# Altium footprint library BGA.PcbLib: 3 footprints
Each footprint in its own frame and in the unit in brackets; x right, y up, seen from the top. Pads: shape width x height; smd on the part's side, far side on the other; paste and mask are expansions set on the pad; w line width, h text height; cw(c..) or ccw(c..) is an arc to the next point about the centre after c.
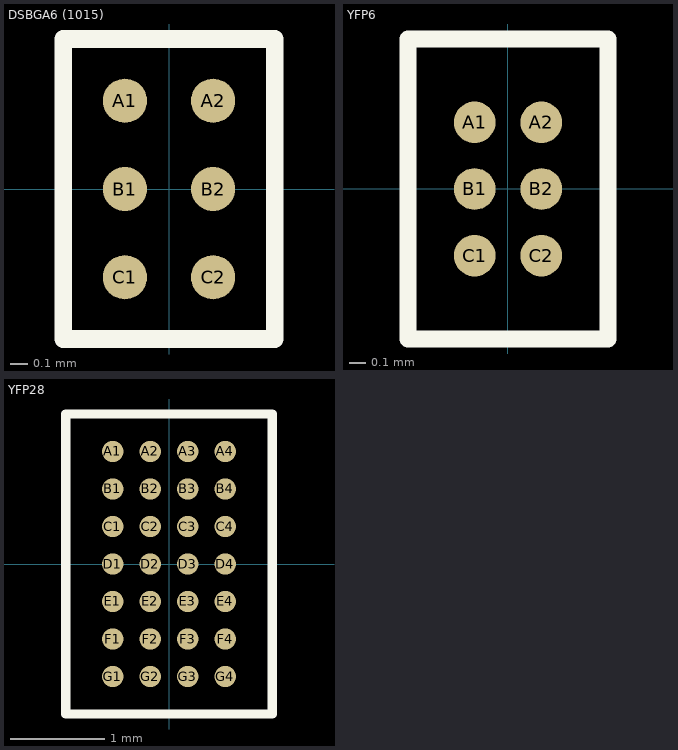
[diagram p0: the footprints below, top view; thin cyan lines are the x and y axes]

## DSBGA6 (1015) [mm]
pads (6):
  round 0.25 smd: A1(-0.25,0.5) A2(0.25,0.5) B1(-0.25,0) B2(0.25,0) C1(-0.25,-0.5) C2(0.25,-0.5)
Top Overlay:
  lines w0.1: -0.6,-0.85 0.6,-0.85 0.6,0.85 -0.6,0.85 -0.6,-0.85
3D body "DSBGA6.SLDPRT": height 0.62, standoff -0.01, extent -0.5,-0.75 0.5,0.75

## YFP6 [mm]
pads (6):
  round 0.25 smd: A1(-0.2,0.4) A2(0.2,0.4) B1(-0.2,0) B2(0.2,0) C1(-0.2,-0.4) C2(0.2,-0.4)
Top Overlay:
  lines w0.1: -0.6,-0.9 -0.6,0.9 0.6,0.9 0.6,-0.9 -0.6,-0.9
3D body "YFP6.STEP": height 0.49, standoff -0.01, extent -0.45,-0.8 0.45,0.8

## YFP28 [mil]
pads (28):
  round 9 smd: A1(-23.62,47.24) A2(-7.87,47.24) A3(7.87,47.24) A4(23.62,47.24) B1(-23.62,31.5) B2(-7.87,31.5) B3(7.87,31.5) B4(23.62,31.5) C1(-23.62,15.75) C2(-7.87,15.75) C3(7.87,15.75) C4(23.62,15.75) D1(-23.62,0) D2(-7.87,0) D3(7.87,0) D4(23.62,0) E1(-23.62,-15.75) E2(-7.87,-15.75) E3(7.87,-15.75) E4(23.62,-15.75) F1(-23.62,-31.5) F2(-7.87,-31.5) F3(7.87,-31.5) F4(23.62,-31.5) G1(-23.62,-47.24) G2(-7.87,-47.24) G3(7.87,-47.24) G4(23.62,-47.24)
Top Overlay:
  lines w3.94: -43.31,-62.99 -43.31,62.99 43.31,62.99 43.31,-62.99 -43.31,-62.99
3D body "YFP28.STEP": height 19.33, standoff -0.39, extent -37.4,-59.05 37.41,59.06